# Altium schematic symbol library LT3029MSE.Schlib: 1 symbol
Pins are listed as number, name and electrical type; pins without a type are passive.

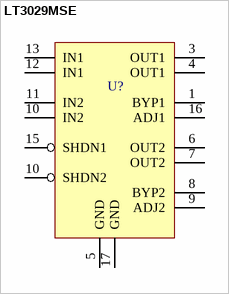
[diagram p0: symbol LT3029MSE]

## LT3029MSE
designator U?, comment LDO  (value not drawn)
Dual 500mA/500mA, Low Dropout, Low Noise, Micropower Linear Regulator
pins: 1 BYP1, 3 OUT1, 4 OUT1, 5 GND, 6 OUT2, 7 OUT2, 8 BYP2, 9 ADJ2, 10 IN2, 10 SHDN2, 11 IN2, 12 IN1, 13 IN1, 15 SHDN1, 16 ADJ1, 17 GND